# Altium footprint library LibTim_ICs.PcbLib: 6 footprints
Each footprint in its own frame and in the unit in brackets; x right, y up, seen from the top. Pads: shape width x height; smd on the part's side, far side on the other; paste and mask are expansions set on the pad; w line width, h text height; cw(c..) or ccw(c..) is an arc to the next point about the centre after c.
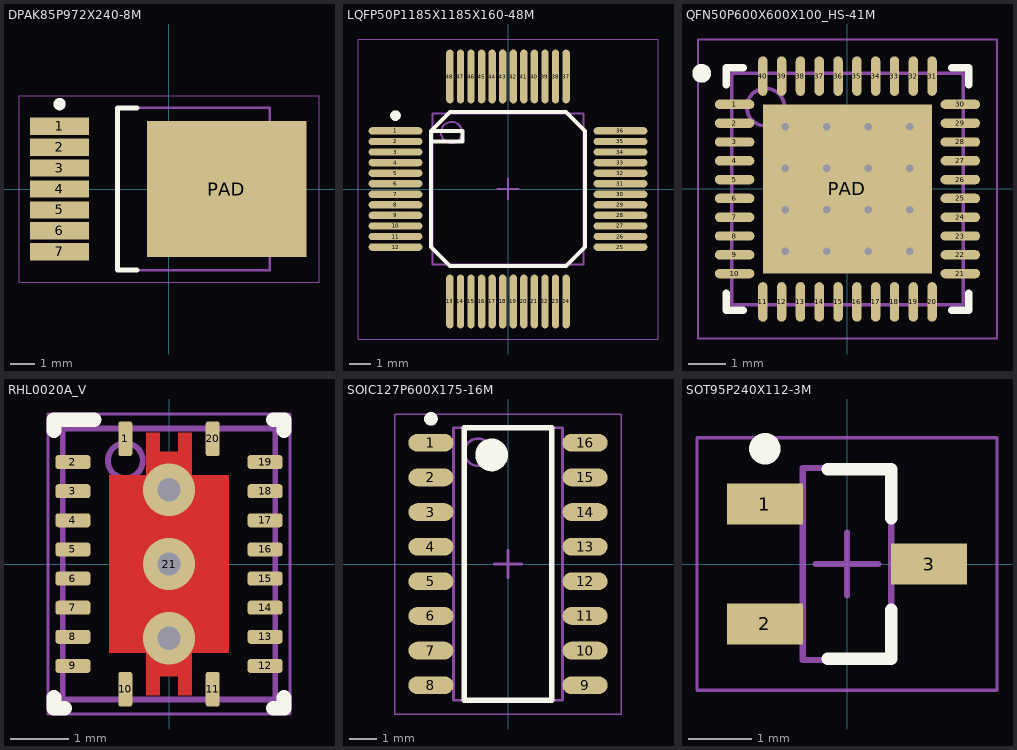
[diagram p0: the footprints below, top view; thin cyan lines are the x and y axes]

## DPAK85P972X240-8M [mm] "D-PAK, 8-Pads, Body 6.20x6.66mm (max), IPC Low Density"
height 2.4
pads (8):
  rect 2.4x0.7 smd: 1(-4.45,2.55) 2(-4.45,1.7) 3(-4.45,0.85) 4(-4.45,0) 5(-4.45,-0.85) 6(-4.45,-1.7) 7(-4.45,-2.55)
  rect 6.5x5.55 smd: PAD(2.35,0)
Top Overlay:
  circle w0.25: c-4.45,3.45 r0.125
  lines w0.2: -1.3,-3.3 -2.1,-3.3 -2.1,3.3 -1.3,3.3
Mechanical 13:
  lines w0.1: -2.1,-3.3 -2.1,3.3 4.1,3.3 4.1,-3.3 -2.1,-3.3
Mechanical 15:
  lines w0.05: -6.1,-3.8 -6.1,3.8 6.1,3.8 6.1,-3.8 -6.1,-3.8
  lines w0.1: -0.5,0 0.5,0 ; 0,-0.5 0,0.5
3D body "DPAK85P972X240-8M.step": height 3.5, standoff 0, extent -4.525,-3.3 5.2,3.3

## LQFP50P1185X1185X160-48M [mm] "LQFP, 48-Leads, Body 11.85x11.85mm, Pitch 0.50mm, IPC Low Density"
height 1.6
pads (48):
  oval 2.55x0.35 smd: 1(-5.325,2.75) 2(-5.325,2.25) 3(-5.325,1.75) 4(-5.325,1.25) 5(-5.325,0.75) 6(-5.325,0.25) 7(-5.325,-0.25) 8(-5.325,-0.75) 9(-5.325,-1.25) 10(-5.325,-1.75) 11(-5.325,-2.25) 12(-5.325,-2.75) 25(5.325,-2.75) 26(5.325,-2.25) 27(5.325,-1.75) 28(5.325,-1.25) 29(5.325,-0.75) 30(5.325,-0.25) 31(5.325,0.25) 32(5.325,0.75) 33(5.325,1.25) 34(5.325,1.75) 35(5.325,2.25) 36(5.325,2.75)
  oval 0.35x2.55 smd: 13(-2.75,-5.325) 14(-2.25,-5.325) 15(-1.75,-5.325) 16(-1.25,-5.325) 17(-0.75,-5.325) 18(-0.25,-5.325) 19(0.25,-5.325) 20(0.75,-5.325) 21(1.25,-5.325) 22(1.75,-5.325) 23(2.25,-5.325) 24(2.75,-5.325) 37(2.75,5.325) 38(2.25,5.325) 39(1.75,5.325) 40(1.25,5.325) 41(0.75,5.325) 42(0.25,5.325) 43(-0.25,5.325) 44(-0.75,5.325) 45(-1.25,5.325) 46(-1.75,5.325) 47(-2.25,5.325) 48(-2.75,5.325)
Top Overlay:
  circle w0.25: c-5.325,3.475 r0.125
  lines w0.2: -3.65,2.25 -2.15,2.25 -2.15,2.75 -3.65,2.75 ; -3.65,2.75 -2.75,3.65 2.75,3.65 3.65,2.75 3.65,-2.75 2.75,-3.65 -2.75,-3.65 -3.65,-2.75 -3.65,2.75
Mechanical 13:
  circle w0.1: c-2.675,2.675 r0.5
  lines w0.1: -3.575,-3.575 3.575,-3.575 3.575,3.575 -3.575,3.575 -3.575,-3.575
Mechanical 15:
  lines w0.05: -7.1,-7.1 7.1,-7.1 7.1,7.1 -7.1,7.1 -7.1,-7.1
  lines w0.1: -0.5,0 0.5,0 ; 0,-0.5 0,0.5
3D body: height 1.6, standoff 0.05, extent -3.575,-3.575 3.575,3.575

## QFN50P600X600X100_HS-41M [mm] "QFN, 40-Leads, Body 6.00x6.00mm, Pitch 0.50mm, Thermal Pad 4.50x4.50mm, IPC Low Density"
height 1
pads (41):
  oval 1.05x0.25 smd: 1(-3,2.25) 2(-3,1.75) 3(-3,1.25) 4(-3,0.75) 5(-3,0.25) 6(-3,-0.25) 7(-3,-0.75) 8(-3,-1.25) 9(-3,-1.75) 10(-3,-2.25) 21(3,-2.25) 22(3,-1.75) 23(3,-1.25) 24(3,-0.75) 25(3,-0.25) 26(3,0.25) 27(3,0.75) 28(3,1.25) 29(3,1.75) 30(3,2.25)
  oval 0.25x1.05 smd: 11(-2.25,-3) 12(-1.75,-3) 13(-1.25,-3) 14(-0.75,-3) 15(-0.25,-3) 16(0.25,-3) 17(0.75,-3) 18(1.25,-3) 19(1.75,-3) 20(2.25,-3) 31(2.25,3) 32(1.75,3) 33(1.25,3) 34(0.75,3) 35(0.25,3) 36(-0.25,3) 37(-0.75,3) 38(-1.25,3) 39(-1.75,3) 40(-2.25,3)
  rect 4.5x4.5 smd: PAD(0,0)
via 1.65,-1.65 diameter 0.5 hole 0.2
via 0.55,-1.65 diameter 0.5 hole 0.2
via -0.55,-1.65 diameter 0.5 hole 0.2
via -1.65,-1.65 diameter 0.5 hole 0.2
via 1.65,-0.55 diameter 0.5 hole 0.2
via 0.55,-0.55 diameter 0.5 hole 0.2
via -0.55,-0.55 diameter 0.5 hole 0.2
via -1.65,-0.55 diameter 0.5 hole 0.2
via 1.65,0.55 diameter 0.5 hole 0.2
via 0.55,0.55 diameter 0.5 hole 0.2
via -0.55,0.55 diameter 0.5 hole 0.2
via -1.65,0.55 diameter 0.5 hole 0.2
via 1.65,1.65 diameter 0.5 hole 0.2
via 0.55,1.65 diameter 0.5 hole 0.2
via -0.55,1.65 diameter 0.5 hole 0.2
via -1.65,1.65 diameter 0.5 hole 0.2
Top Overlay:
  circle w0.25: c-3.875,3.075 r0.125
  lines w0.2: -3.225,-2.775 -3.225,-3.225 -2.775,-3.225 ; -3.225,2.775 -3.225,3.225 -2.775,3.225 ; 2.775,-3.225 3.225,-3.225 3.225,-2.775 ; 2.775,3.225 3.225,3.225 3.225,2.775
Mechanical 13:
  circle w0.1: c-2.175,2.175 r0.5
  lines w0.1: -3.075,-3.075 3.075,-3.075 3.075,3.075 -3.075,3.075 -3.075,-3.075
Mechanical 15:
  lines w0.05: -3.975,-3.975 3.975,-3.975 3.975,3.975 -3.975,3.975 -3.975,-3.975
  lines w0.1: -0.5,0 0.5,0 ; 0,-0.5 0,0.5
3D body: height 1, standoff 0.05, extent -3.075,-3.075 3.075,3.075

## RHL0020A_V [mm] "QFN, 20-Leads, Body 4.5x3.5mm, Pitch 0.5mm, Thermal Pad 3.05x2.05mm, TI Recommended"
height 1
pads (21):
  rrect42% 0.24x0.6 smd: 1(-0.75,2.15) 10(-0.75,-2.15) 11(0.75,-2.15) 20(0.75,2.15)
  rrect42% 0.6x0.24 smd: 2(-1.65,1.75) 3(-1.65,1.25) 4(-1.65,0.75) 5(-1.65,0.25) 6(-1.65,-0.25) 7(-1.65,-0.75) 8(-1.65,-1.25) 9(-1.65,-1.75) 12(1.65,-1.75) 13(1.65,-1.25) 14(1.65,-0.75) 15(1.65,-0.25) 16(1.65,0.25) 17(1.65,0.75) 18(1.65,1.25) 19(1.65,1.75)
  rrect33% 0.3x0.3 smd paste-0.15 mask+0: 21(0,0)
via 0,0 diameter 0.9 hole 0.4
via 0,1.275 diameter 0.9 hole 0.4
via 0,-1.275 diameter 0.9 hole 0.4
Top Layer:
  region: 0.16,2.25 0.16,1.925 -0.16,1.925 -0.16,2.25 -0.39,2.25 -0.39,1.525 -1.025,1.525 -1.025,-1.525 -0.39,-1.525 -0.39,-2.25 -0.16,-2.25 -0.16,-1.925 0.16,-1.925 0.16,-2.25 0.39,-2.25 0.39,-1.525 1.025,-1.525 1.025,1.525 0.39,1.525 0.39,2.25
Top Overlay:
  lines w0.254: -1.975,-2.29 -1.975,-2.475 -1.79,-2.475 ; -1.975,2.29 -1.975,2.475 -1.29,2.475 ; 1.79,-2.475 1.975,-2.475 1.975,-2.29 ; 1.79,2.475 1.975,2.475 1.975,2.29
Top Paste:
  rectangle: 0.1,-1.428 1.017,-0.1
  region: -0.1,-0.1 -1.017,-0.1 -1.017,-1.428 -0.1,-1.428
  region: -0.1,1.428 -1.017,1.428 -1.017,0.1 -0.1,0.1
  rectangle: 0.1,0.1 1.017,1.428
  rectangle: -0.39,1.628 0.39,1.925
  rectangle: -0.39,-1.925 0.39,-1.628
Mechanical 1:
  text ".Designator" at -1.651,-0.508 h0.8
Mechanical 13:
  circle w0.1: c-0.75,1.775 r0.3
  lines w0.1: -1.825,-2.325 1.825,-2.325 1.825,2.325 -1.825,2.325 -1.825,-2.325
Mechanical 15:
  lines w0.05: -2.075,-2.575 -2.075,2.575 2.075,2.575 2.075,-2.575 -2.075,-2.575
  lines w0.1: -0.5,0 0.5,0 ; 0,-0.5 0,0.5
3D body: height 1, standoff 0, extent -1.825,-2.325 1.825,2.325
3D body: height 1.01, standoff 0.5, extent -1.049,1.476 -0.451,2.074

## SOIC127P600X175-16M [mm] "SOIC, 16-Leads, Body 9.90x3.90mm, Pitch 1.27mm, IPC Low Density"
height 1.75
pads (16):
  oval 1.65x0.65 smd: 1(-2.825,4.445) 2(-2.825,3.175) 3(-2.825,1.905) 4(-2.825,0.635) 5(-2.825,-0.635) 6(-2.825,-1.905) 7(-2.825,-3.175) 8(-2.825,-4.445) 9(2.825,-4.445) 10(2.825,-3.175) 11(2.825,-1.905) 12(2.825,-0.635) 13(2.825,0.635) 14(2.825,1.905) 15(2.825,3.175) 16(2.825,4.445)
Top Overlay:
  circle w0.6: c-0.6,4 r0.3
  circle w0.25: c-2.825,5.32 r0.125
  lines w0.2: -1.6,-5 1.6,-5 1.6,5 -1.6,5 -1.6,-5
Mechanical 13:
  circle w0.1: c-1.1,4.1 r0.5
  lines w0.1: -2,-5 2,-5 2,5 -2,5 -2,-5
Mechanical 15:
  lines w0.05: -4.15,-5.5 4.15,-5.5 4.15,5.5 -4.15,5.5 -4.15,-5.5
  lines w0.1: -0.5,0 0.5,0 ; 0,-0.5 0,0.5
3D body: height 1.75, standoff 0.1, extent -2,-5 2,5

## SOT95P240X112-3M [mm] "SOT23, 3-Leads, Body 2.90x2.40mm, Pitch 0.95mm, IPC Low Density"
height 1.12
pads (3):
  rect 1.2x0.65 smd: 1(-1.3,0.95) 2(-1.3,-0.95) 3(1.3,0)
Top Overlay:
  circle w0.25: c-1.3,1.825 r0.125
  lines w0.2: -0.3,-1.5 0.7,-1.5 0.7,-0.725 ; -0.3,1.5 0.7,1.5 0.7,0.725
Mechanical 13:
  lines w0.1: -0.7,-1.52 -0.7,1.52 0.7,1.52 0.7,-1.52 -0.7,-1.52
Mechanical 15:
  lines w0.05: -2.375,-2 -2.375,2 2.375,2 2.375,-2 -2.375,-2
  lines w0.1: -0.5,0 0.5,0 ; 0,-0.5 0,0.5
3D body: height 1.12, standoff 0.25, extent -0.7,-1.52 0.7,1.52